# Altium schematic symbol library DIGITAL.SchLib: 35 symbols
Pins are listed as number, name and electrical type; pins without a type are passive.

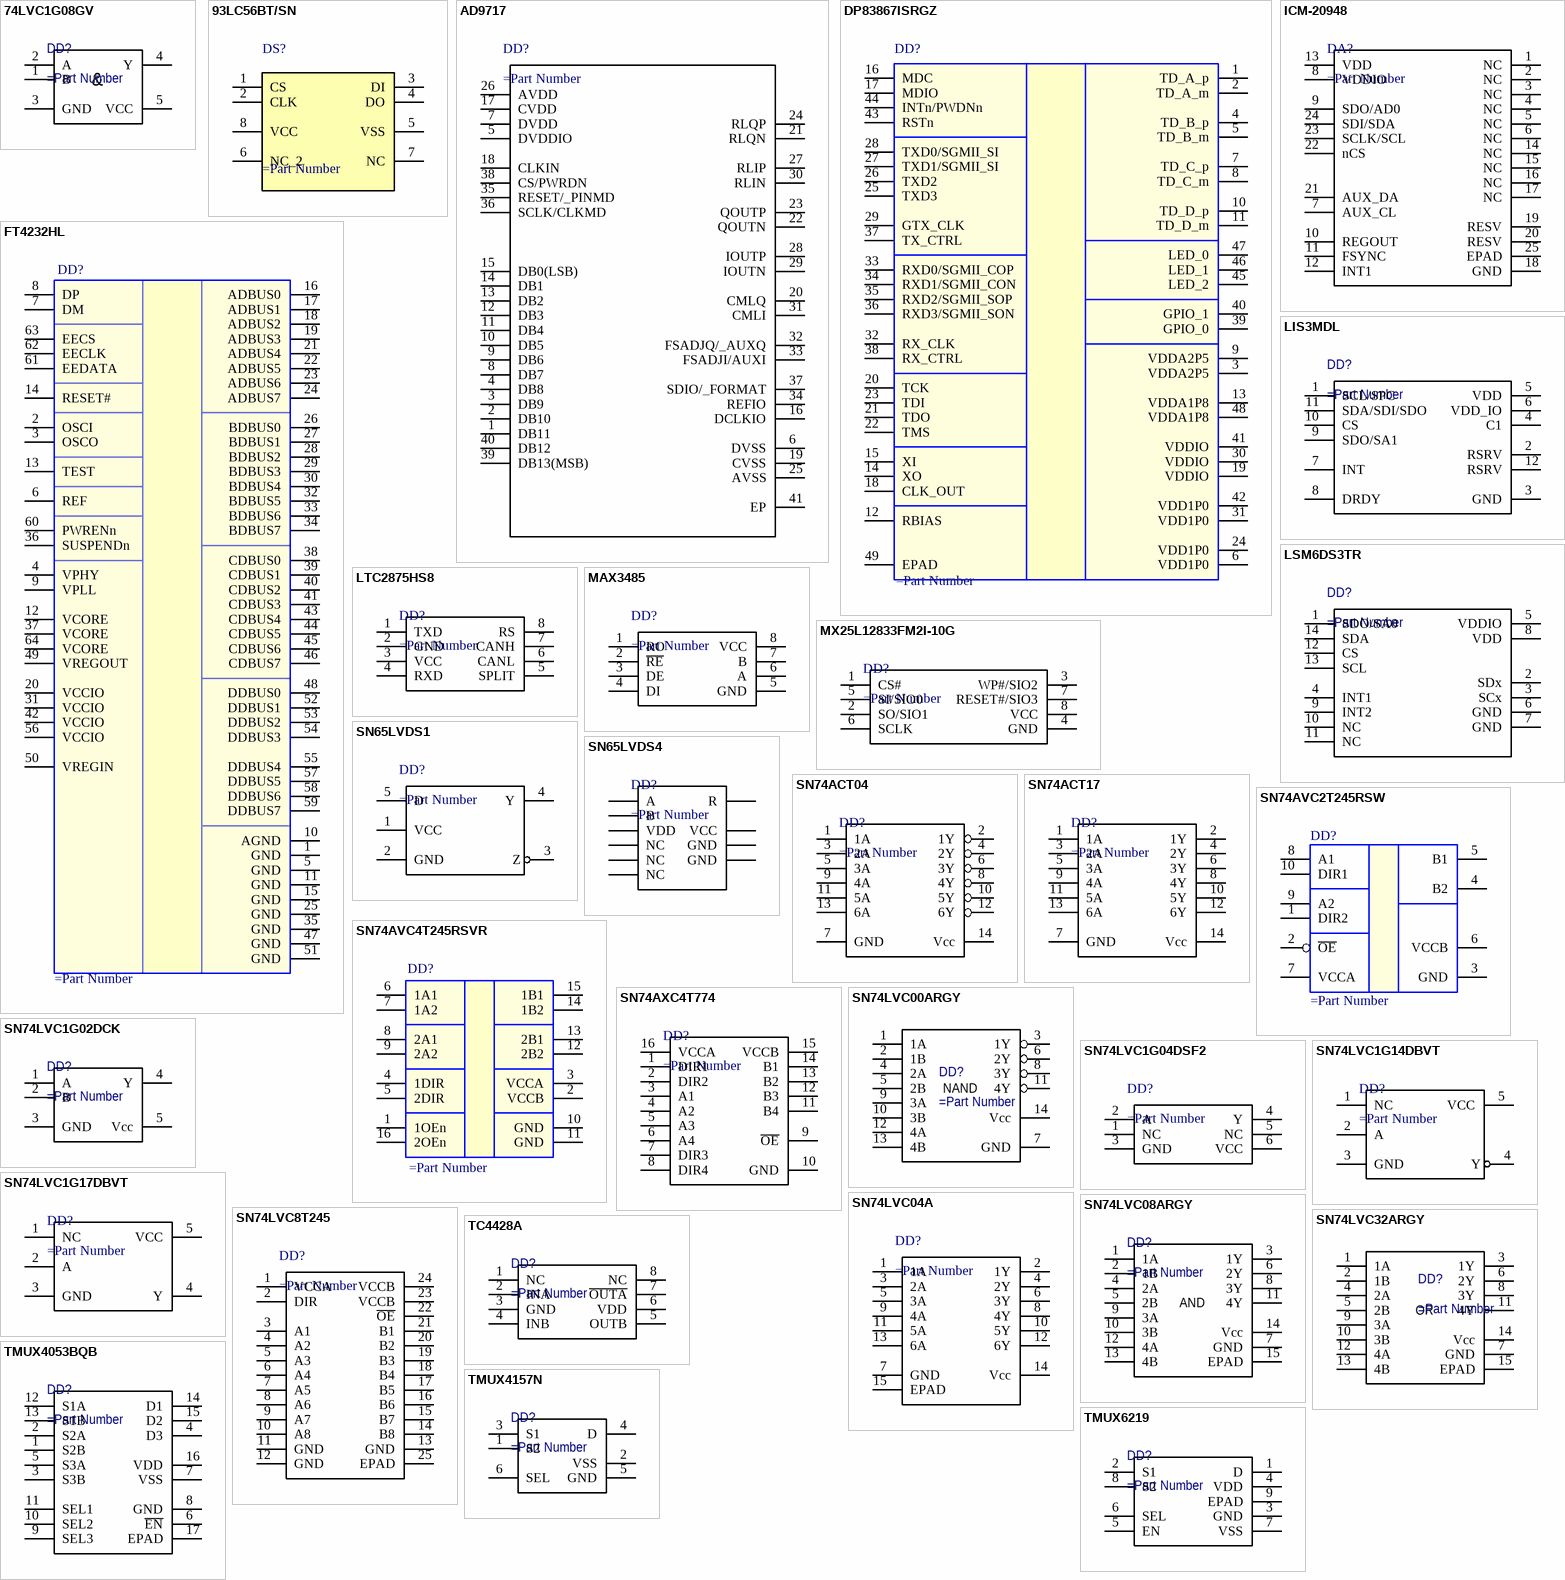
[diagram p0: symbols 74LVC1G08GV to TMUX6219]

## 74LVC1G08GV
designator DD?
pins: 1 B, 2 A, 3 GND, 4 Y, 5 VCC
text: &

## 93LC56BT/SN
designator DS?
pins: 1 CS, 2 CLK, 3 DI, 4 DO, 5 VSS, 6 NC_2, 7 NC, 8 VCC

## AD9717
designator DD?
pins: 1 DB11, 2 DB10, 3 DB9, 4 DB8, 5 DVDDIO (power), 6 DVSS, 7 DVDD (power), 8 DB7, 9 DB6, 10 DB5, 11 DB4, 12 DB3, 13 DB2, 14 DB1, 15 DB0(LSB), 16 DCLKIO, 17 CVDD (power), 18 CLKIN, 19 CVSS, 20 CMLQ, 21 RLQN, 22 QOUTN, 23 QOUTP, 24 RLQP, 25 AVSS, 26 AVDD (power), 27 RLIP, 28 IOUTP, 29 IOUTN, 30 RLIN, 31 CMLI, 32 FSADJQ/_AUXQ, 33 FSADJI/AUXI, 34 REFIO, 35 RESET/_PINMD, 36 SCLK/CLKMD, 37 SDIO/_FORMAT, 38 CS/PWRDN, 39 DB13(MSB), 40 DB12, 41 EP

## DP83867ISRGZ
designator DD?
pins: 1 TD_A_p, 2 TD_A_m, 3 VDDA2P5, 4 TD_B_p, 5 TD_B_m, 6 VDD1P0, 7 TD_C_p, 8 TD_C_m, 9 VDDA2P5, 10 TD_D_p, 11 TD_D_m, 12 RBIAS, 13 VDDA1P8, 14 XO, 15 XI, 16 MDC, 17 MDIO, 18 CLK_OUT, 19 VDDIO, 20 TCK, 21 TDO, 22 TMS, 23 TDI, 24 VDD1P0, 25 TXD3, 26 TXD2, 27 TXD1/SGMII_SI, 28 TXD0/SGMII_SI, 29 GTX_CLK, 30 VDDIO, 31 VDD1P0, 32 RX_CLK, 33 RXD0/SGMII_COP, 34 RXD1/SGMII_CON, 35 RXD2/SGMII_SOP, 36 RXD3/SGMII_SON, 37 TX_CTRL, 38 RX_CTRL, 39 GPIO_0, 40 GPIO_1, 41 VDDIO, 42 VDD1P0, 43 RSTn, 44 INTn/PWDNn, 45 LED_2, 46 LED_1, 47 LED_0, 48 VDDA1P8, 49 EPAD

## FT4232HL
designator DD?
pins: 1 GND, 2 OSCI, 3 OSCO, 4 VPHY, 5 GND, 6 REF, 7 DM, 8 DP, 9 VPLL, 10 AGND, 11 GND, 12 VCORE, 13 TEST, 14 RESET#, 15 GND, 16 ADBUS0, 17 ADBUS1, 18 ADBUS2, 19 ADBUS3, 20 VCCIO, 21 ADBUS4, 22 ADBUS5, 23 ADBUS6, 24 ADBUS7, 25 GND, 26 BDBUS0, 27 BDBUS1, 28 BDBUS2, 29 BDBUS3, 30 BDBUS4, 31 VCCIO, 32 BDBUS5, 33 BDBUS6, 34 BDBUS7, 35 GND, 36 SUSPENDn, 37 VCORE, 38 CDBUS0, 39 CDBUS1, 40 CDBUS2, 41 CDBUS3, 42 VCCIO, 43 CDBUS4, 44 CDBUS5, 45 CDBUS6, 46 CDBUS7, 47 GND, 48 DDBUS0, 49 VREGOUT, 50 VREGIN, 51 GND, 52 DDBUS1, 53 DDBUS2, 54 DDBUS3, 55 DDBUS4, 56 VCCIO, 57 DDBUS5, 58 DDBUS6, 59 DDBUS7, 60 PWRENn, 61 EEDATA, 62 EECLK, 63 EECS, 64 VCORE

## ICM-20948
designator DA?
pins: 1 NC, 2 NC, 3 NC, 4 NC, 5 NC, 6 NC, 7 AUX_CL, 8 VDDIO, 9 SDO/AD0, 10 REGOUT, 11 FSYNC, 12 INT1, 13 VDD, 14 NC, 15 NC, 16 NC, 17 NC, 18 GND, 19 RESV, 20 RESV, 21 AUX_DA, 22 nCS, 23 SCLK/SCL, 24 SDI/SDA, 25 EPAD

## LIS3MDL
designator DD?
pins: 1 SCL/SPC, 2 RSRV, 3 GND, 4 C1, 5 VDD, 6 VDD_IO, 7 INT, 8 DRDY, 9 SDO/SA1, 10 CS, 11 SDA/SDI/SDO, 12 RSRV

## LSM6DS3TR
designator DD?
pins: 1 SDO/SA0, 2 SDx, 3 SCx, 4 INT1, 5 VDDIO, 6 GND, 7 GND, 8 VDD, 9 INT2, 10 NC, 11 NC, 12 CS, 13 SCL, 14 SDA

## LTC2875HS8
designator DD?
pins: 1 TXD, 2 GND, 3 VCC, 4 RXD, 5 SPLIT, 6 CANL, 7 CANH, 8 RS

## MAX3485
designator DD?
pins: 1 RO, 2 ~{RE}, 3 DE, 4 DI, 5 GND, 6 A, 7 B, 8 VCC

## MX25L12833FM2I-10G
designator DD?
pins: 1 CS#, 2 SO/SIO1, 3 WP#/SIO2, 4 GND, 5 SI/SIO0, 6 SCLK, 7 RESET#/SIO3, 8 VCC

## SN65LVDS1
designator DD?
pins: 1 VCC, 2 GND, 3 Z, 4 Y, 5 D

## SN65LVDS4
designator DD?
pins: 1 GND, 2 A, 3 B, 4 NC, 5 VCC, 6 NC, 7 GND, 8 R, 9 NC, 10 VDD

## SN74ACT04
designator DD?
pins: 1 1A, 2 1Y, 3 2A, 4 2Y, 5 3A, 6 3Y, 7 GND, 8 4Y, 9 4A, 10 5Y, 11 5A, 12 6Y, 13 6A, 14 Vcc

## SN74ACT17
designator DD?
pins: 1 1A, 2 1Y, 3 2A, 4 2Y, 5 3A, 6 3Y, 7 GND, 8 4Y, 9 4A, 10 5Y, 11 5A, 12 6Y, 13 6A, 14 Vcc

## SN74AVC2T245RSW
designator DD?
pins: 1 DIR2, 2 ~{OE}, 3 GND, 4 B2, 5 B1, 6 VCCB, 7 VCCA, 8 A1, 9 A2, 10 DIR1

## SN74AVC4T245RSVR
designator DD?
pins: 1 1OEn, 2 VCCB, 3 VCCA, 4 1DIR, 5 2DIR, 6 1A1, 7 1A2, 8 2A1, 9 2A2, 10 GND, 11 GND, 12 2B2, 13 2B1, 14 1B2, 15 1B1, 16 2OEn

## SN74AXC4T774
designator DD?
pins: 1 DIR1, 2 DIR2, 3 A1, 4 A2, 5 A3, 6 A4, 7 DIR3, 8 DIR4, 9 ~{OE}, 10 GND, 11 B4, 12 B3, 13 B2, 14 B1, 15 VCCB, 16 VCCA

## SN74LVC00ARGY
designator DD?
pins: 1 1A, 2 1B, 3 1Y, 4 2A, 5 2B, 6 2Y, 7 GND, 8 3Y, 9 3A, 10 3B, 11 4Y, 12 4A, 13 4B, 14 Vcc
text: NAND

## SN74LVC1G02DCK
designator DD?
pins: 1 A, 2 B, 3 GND, 4 Y, 5 Vcc

## SN74LVC1G04DSF2
designator DD?
pins: 1 NC, 2 A, 3 GND, 4 Y, 5 NC, 6 VCC

## SN74LVC1G14DBVT
designator DD?
pins: 1 NC, 2 A, 3 GND, 4 Y, 5 VCC

## SN74LVC1G17DBVT
designator DD?
pins: 1 NC, 2 A, 3 GND, 4 Y, 5 VCC

## SN74LVC04A
designator DD?
pins: 1 1A, 2 1Y, 3 2A, 4 2Y, 5 3A, 6 3Y, 7 GND, 8 4Y, 9 4A, 10 5Y, 11 5A, 12 6Y, 13 6A, 14 Vcc, 15 EPAD

## SN74LVC08ARGY
designator DD?
pins: 1 1A, 2 1B, 3 1Y, 4 2A, 5 2B, 6 2Y, 7 GND, 8 3Y, 9 3A, 10 3B, 11 4Y, 12 4A, 13 4B, 14 Vcc, 15 EPAD
text: AND

## SN74LVC8T245
designator DD?
pins: 1 VCCA, 2 DIR, 3 A1, 4 A2, 5 A3, 6 A4, 7 A5, 8 A6, 9 A7, 10 A8, 11 GND, 12 GND, 13 GND, 14 B8, 15 B7, 16 B6, 17 B5, 18 B4, 19 B3, 20 B2, 21 B1, 22 ~{OE}, 23 VCCB, 24 VCCB, 25 EPAD

## SN74LVC32ARGY
designator DD?
pins: 1 1A, 2 1B, 3 1Y, 4 2A, 5 2B, 6 2Y, 7 GND, 8 3Y, 9 3A, 10 3B, 11 4Y, 12 4A, 13 4B, 14 Vcc, 15 EPAD
text: OR

## TC4428A
designator DD?
pins: 1 NC, 2 INA, 3 GND, 4 INB, 5 OUTB, 6 VDD, 7 ~{OUTA}, 8 NC

## TMUX4053BQB
designator DD?
pins: 1 S2B, 2 S2A , 3 S3B, 4 D3, 5 S3A, 6 ~{EN}, 7 VSS, 8 GND, 9 SEL3, 10 SEL2, 11 SEL1, 12 S1A, 13 S1B, 14 D1, 15 D2, 16 VDD, 17 EPAD

## TMUX4157N
designator DD?
pins: 1 S2, 2 VSS, 3 S1, 4 D, 5 GND, 6 SEL

## TMUX6219
designator DD?
pins: 1 D, 2 S1, 3 GND, 4 VDD, 5 EN, 6 SEL, 7 VSS, 8 S2, 9 EPAD

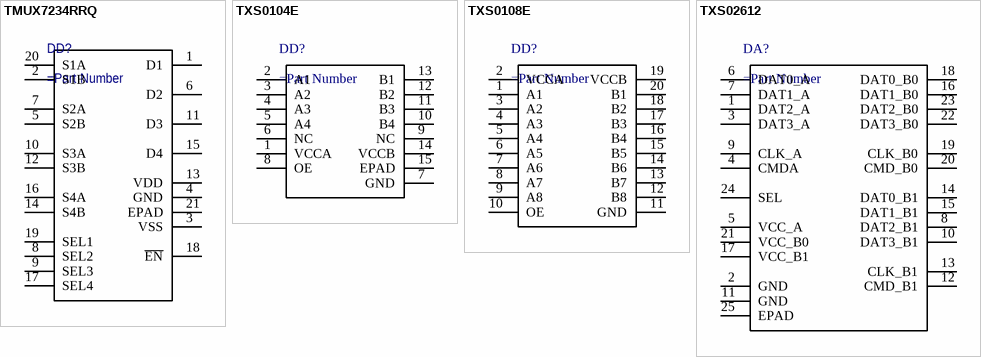
[diagram p1: symbols TMUX7234RRQ to TXS02612]

## TMUX7234RRQ
designator DD?
pins: 1 D1, 2 S1B, 3 VSS, 4 GND, 5 S2B, 6 D2, 7 S2A, 8 SEL2, 9 SEL3, 10 S3A, 11 D3, 12 S3B, 13 VDD, 14 S4B, 15 D4, 16 S4A, 17 SEL4, 18 ~{EN}, 19 SEL1, 20 S1A, 21 EPAD

## TXS0104E
designator DD?
pins: 1 VCCA, 2 A1, 3 A2, 4 A3, 5 A4, 6 NC, 7 GND, 8 OE, 9 NC, 10 B4, 11 B3, 12 B2, 13 B1, 14 VCCB, 15 EPAD

## TXS0108E
designator DD?
pins: 1 A1, 2 VCCA, 3 A2, 4 A3, 5 A4, 6 A5, 7 A6, 8 A7, 9 A8, 10 OE, 11 GND, 12 B8, 13 B7, 14 B6, 15 B5, 16 B4, 17 B3, 18 B2, 19 VCCB, 20 B1

## TXS02612
designator DA?
pins: 1 DAT2_A, 2 GND, 3 DAT3_A, 4 CMDA, 5 VCC_A, 6 DAT0_A, 7 DAT1_A, 8 DAT2_B1, 9 CLK_A, 10 DAT3_B1, 11 GND, 12 CMD_B1, 13 CLK_B1, 14 DAT0_B1, 15 DAT1_B1, 16 DAT1_B0, 17 VCC_B1, 18 DAT0_B0, 19 CLK_B0, 20 CMD_B0, 21 VCC_B0, 22 DAT3_B0, 23 DAT2_B0, 24 SEL, 25 EPAD